# Altium schematic symbol library SW-PB.Schlib: 1 symbol
Pins are listed as number, name and electrical type; pins without a type are passive.

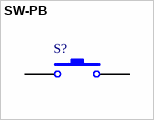
[diagram p0: symbol SW-PB]

## SW-PB
designator S?
Switch
pins: 1, 2